# EAGLE library part MC74LCX07 (library dadamachines)
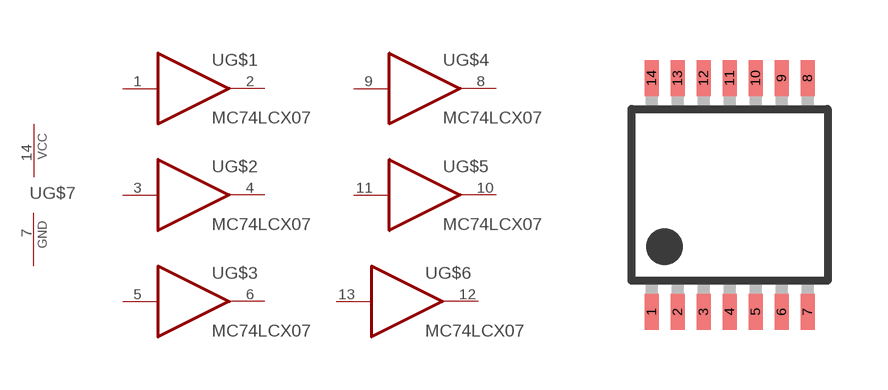
[diagram p0: symbol with the pads of TSSOP14; footprint TSSOP14]

Designator prefix -; gates G$1=74LCX07-SYM G$2=74LCX07-SYM G$3=74LCX07-SYM G$4=74LCX07-SYM G$5=74LCX07-SYM G$6=74LCX07-SYM G$7=PWRN

## MC74LCX07  [TSSOP14]
1  G$1:I  in
2  G$1:O  oc
3  G$2:I  in
4  G$2:O  oc
5  G$3:I  in
6  G$3:O  oc
7  G$7:GND  pwr
8  G$4:O  oc
9  G$4:I  in
10  G$5:O  oc
11  G$5:I  in
12  G$6:O  oc
13  G$6:I  in
14  G$7:VCC  pwr

## Footprint TSSOP14 (pad centres in mm)
smd 0.35 x 0.9: 1 -1.95,-2.925; 2 -1.3,-2.925; 3 -0.65,-2.925; 4 0,-2.925; 5 0.65,-2.925; 6 1.3,-2.925; 7 1.95,-2.925; 8 1.95,2.925; 9 1.3,2.925; 10 0.65,2.925; 11 0,2.925; 12 -0.65,2.925; 13 -1.3,2.925; 14 -1.95,2.925